# EAGLE library part USB-787616 (library balto)
AMP connector
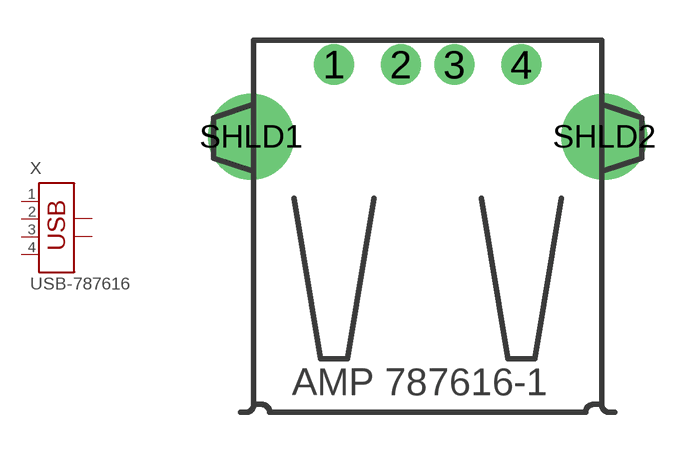
[diagram p4: symbol with the pads of USB; footprint USB]

Designator prefix X

## USB-787616  [USB]
1  1  pas
2  2  pas
3  3  pas
4  4  pas
SHLD1  SHLD1  pas
SHLD2  SHLD2  pas

## Footprint USB (pad centres in mm)
USB connector
drill 1: 1 -3.5,12.99; 2 -1,12.99; 3 1,12.99; 4 3.5,12.99
drill 2.2: SHLD1 -6.6,10.3; SHLD2 6.6,10.3